# Altium integrated library FDC658AP.IntLib: 1 symbol
Pins are listed as number, name and electrical type; pins without a type are passive.

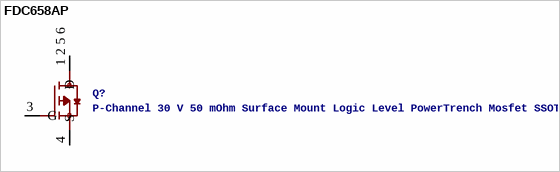
[diagram p0: symbol FDC658AP]

## FDC658AP
designator Q?, comment P-Channel 30 V 50 mOhm Surface Mount Logic Level PowerTrench Mosfet SSOT-6
MP: FDC658AP; MF: Fairchild Semiconductor; Availability: Good; Price: 0.26 USD; Description: P-Channel 30 V 50 mOhm Surface Mount Logic Level PowerTrench Mosfet SSOT-6; Package: TSOT-23-6 Fairchild Semiconductor
footprint SOT95P280X110-6N
pins: 1 2 5 6 D, 3 G, 4 S